# Altium integrated library LIB_TEMP_S7CAS_SCH.IntLib: 1 symbol
Pins are listed as number, name and electrical type; pins without a type are passive.

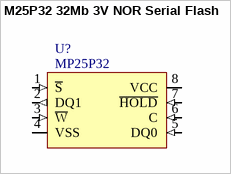
[diagram p0: symbol M25P32 32Mb 3V NOR Serial Flash]

## M25P32 32Mb 3V NOR Serial Flash
designator U?, comment MP25P32
MP25P32 - 32Mb (4Mb x 8) serial Flash memory device - VFQFPN8 (6X5); GRAMS Lib Spec: 2.7
pins: 1 ~{S} (in) "Chip select", 2 DQ1 (out) "Serial data", 3 ~{W} (in) "Write protect", 4 VSS "Ground", 5 DQ0 (in) "Serial data", 6 C (in) "Clock", 7 ~{HOLD} (in) "Hold", 8 VCC (power) "Device core power supply"